# Altium schematic symbol library THT_Matrix.SchLib: 1 symbol
Pins are listed as number, name and electrical type; pins without a type are passive.

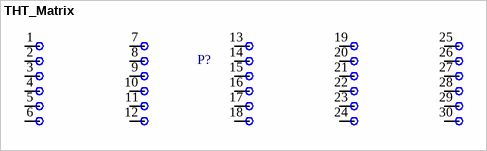
[diagram p0: symbol THT_Matrix]

## THT_Matrix
designator P?
Pin matrix, 6 rows, 5 columns, 2.54mm pitch
footprint THT_Matrix_5x6
pins: 1, 2, 3, 4, 5, 6, 7, 8, 9, 10, 11, 12, 13, 14, 15, 16, 17, 18, 19, 20, 21, 22, 23, 24, 25, 26, 27, 28, 29, 30